# EAGLE library part RFID-RC522 (library partes v2)
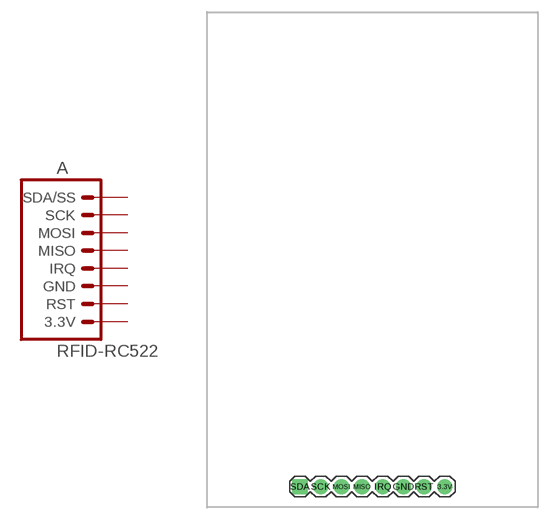
[diagram p3: symbol with the pads of RFID-RC522; footprint RFID-RC522]

Designator prefix A

## RFID-RC522  [RFID-RC522]
3.3V  3.3V  pas
GND  GND  pas
IRQ  IRQ  pas
MISO  MISO  pas
MOSI  MOSI  pas
RST  RST  pas
SCK  SCK  pas
SDA  SDA/SS  pas

## Footprint RFID-RC522 (pad centres in mm)
drill 1.016 pad 1.88: 3.3V 8.89,0; GND 3.81,0; IRQ 1.27,0; MISO -1.27,0; MOSI -3.81,0; RST 6.35,0; SCK -6.35,0
drill 1.016 pad 1.88 square: SDA -8.89,0